# Altium footprint library MergenElektronik_Communications_UARTTechnologies.PcbLib: 1 footprints
Each footprint in its own frame and in the unit in brackets; x right, y up, seen from the top. Pads: shape width x height; smd on the part's side, far side on the other; paste and mask are expansions set on the pad; w line width, h text height; cw(c..) or ccw(c..) is an arc to the next point about the centre after c.
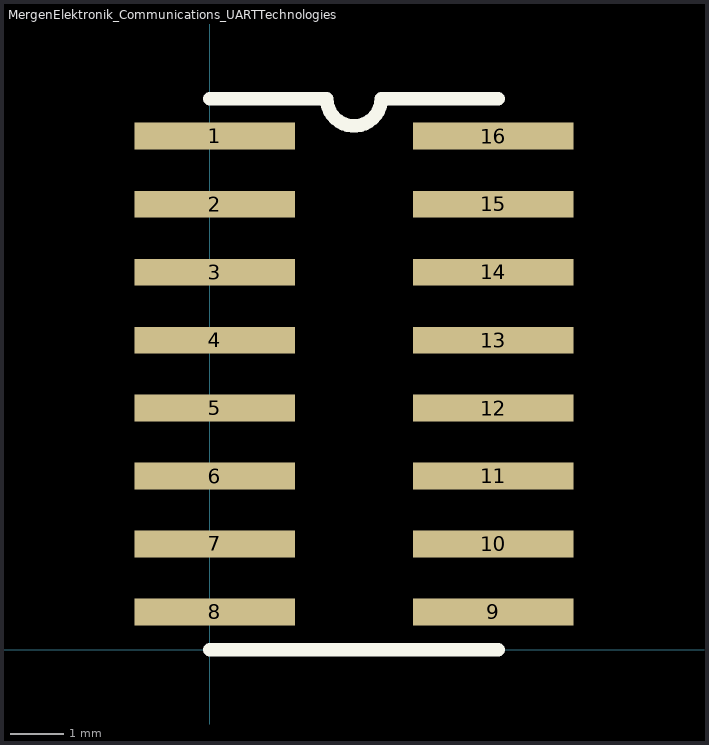
[diagram p0: the footprint, top view; thin cyan lines are the x and y axes]

## MergenElektronik_Communications_UARTTechnologies_CH340 [mm] "CH340"
pads (16):
  rect 3x0.5 smd: 1(0.1,9.6) 2(0.1,8.325) 3(0.1,7.055) 4(0.1,5.785) 5(0.1,4.515) 6(0.1,3.245) 7(0.1,1.975) 8(0.1,0.705) 9(5.3,0.705) 10(5.3,1.975) 11(5.3,3.245) 12(5.3,4.515) 13(5.3,5.785) 14(5.3,7.055) 15(5.3,8.325) 16(5.3,9.6)
Top Overlay:
  lines w0.254: 0,0 5.4,0 ; 0,10.3 2.19,10.3 ccw(c2.7,10.3) 3.21,10.3 5.4,10.3
3D body: height 1.77, standoff 0, extent -0.3,0.2 5.7,10.1